# Altium integrated library OptoRelays.IntLib: 3 symbols
Pins are listed as number, name and electrical type; pins without a type are passive.

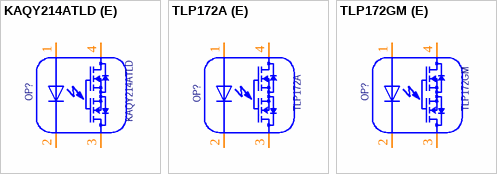
[diagram p0: symbols KAQY214ATLD (E) to TLP172GM (E)]

## KAQY214ATLD (E)
designator OP?, comment KAQY214ATLD
400 V 130 mA; Manufacturer: Cosmo Electronics; Detailed Description: SOLID STATE RELAYS SOP-4_P2.54 ROHS; Marking: Y214; Assembly type: Extended Part; HelpURL: https://datasheet.lcsc.com/szlcsc/Cosmo-Electronics-KAQY214ATLD_C136448.pdf; Manufacturer PartNumber: KAQY214ATLD; Package / Case: SMD-4; PartNumber LCSC: C136448; Pricing LCSC: 0.7264; Publisher: Catcatcat Electronics; Website developer: http://catcatcat.d-lan.dp.ua/; Value: KAQY214ATLD
footprint SOP-4
footprint SMD-4
footprint SMD-4 S1 option
pins: 1, 2, 3, 4

## TLP172A (E)
designator OP?, comment TLP172A
60 V 400 mA; Manufacturer: TOSHIBA; Detailed Description: SOLID STATE RELAYS SOP-4_P2.54 ROHS; Assembly type: Extended Part; HelpURL: https://datasheet.lcsc.com/szlcsc/Cosmo-Electronics-KAQY214ATLD_C136448.pdf; Manufacturer PartNumber: TLP172A; Package / Case: SOP-4_P2.54; PartNumber LCSC: C99477; Pricing LCSC: 1.2435; Publisher: Catcatcat Electronics; Website developer: http://catcatcat.d-lan.dp.ua/; Value: TLP172A
footprint SOP-4_P2.54
pins: 1, 2, 3, 4

## TLP172GM (E)
designator OP?, comment value TLP172GM  (hidden comment: TLP172GM(TPL,E(O)
60 V 400 mA; Manufacturer: TOSHIBA; Detailed Description: SOLID STATE RELAYS SOP-4_P2.54 ROHS; Assembly type: Extended Part; HelpURL: https://datasheet.lcsc.com/szlcsc/TOSHIBA-TLP172GM-TPL-E-O_C261926.pdf; Manufacturer PartNumber: TLP172GM; Package / Case: SOP-4_P2.54; PartNumber LCSC: C261926; Pricing LCSC: 0.4790; Publisher: Catcatcat Electronics; Website developer: http://catcatcat.d-lan.dp.ua/
footprint SOP-4_P2.54
pins: 1, 2, 3, 4